# EAGLE library part 40109 (library 40xx-2)
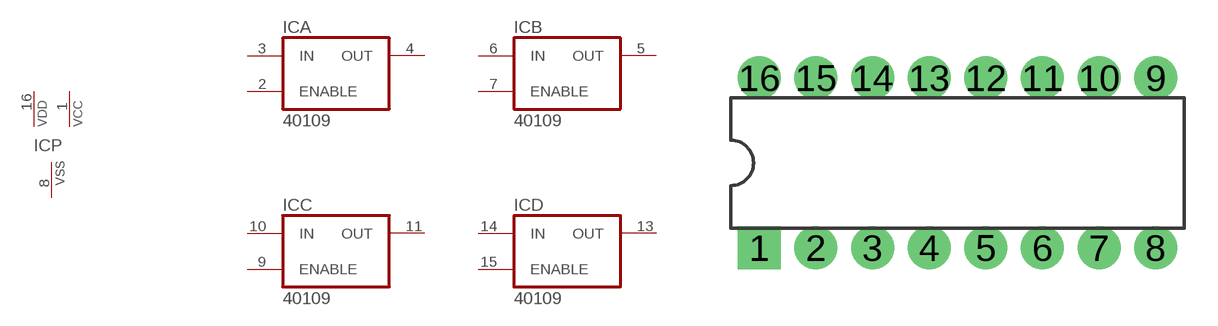
[diagram p84: symbol with the pads of DIL16; footprint DIL16]

Designator prefix IC; gates A=40109 B=40109 C=40109 D=40109 P=PWR3

## 40109  [DIL16]
1  P:VCC  pwr
2  A:ENABLE  in
3  A:IN  in
4  A:OUT  hiz
5  B:OUT  hiz
6  B:IN  in
7  B:ENABLE  in
8  P:VSS  pwr
9  C:ENABLE  in
10  C:IN  in
11  C:OUT  hiz
13  D:OUT  hiz
14  D:IN  in
15  D:ENABLE  in
16  P:VDD  pwr

## Footprint DIL16 (pad centres in mm)
Dual In Line Package
drill 1 pad 1.93 square: 1 -8.89,-3.81
drill 1 pad 1.93 round: 2 -6.35,-3.81; 3 -3.81,-3.81; 4 -1.27,-3.81; 5 1.27,-3.81; 6 3.81,-3.81; 7 6.35,-3.81; 8 8.89,-3.81; 9 8.89,3.81; 10 6.35,3.81; 11 3.81,3.81; 12 1.27,3.81; 13 -1.27,3.81; 14 -3.81,3.81; 15 -6.35,3.81; 16 -8.89,3.81